# Altium integrated library AmpOp.IntLib: 6 symbols
Pins are listed as number, name and electrical type; pins without a type are passive.

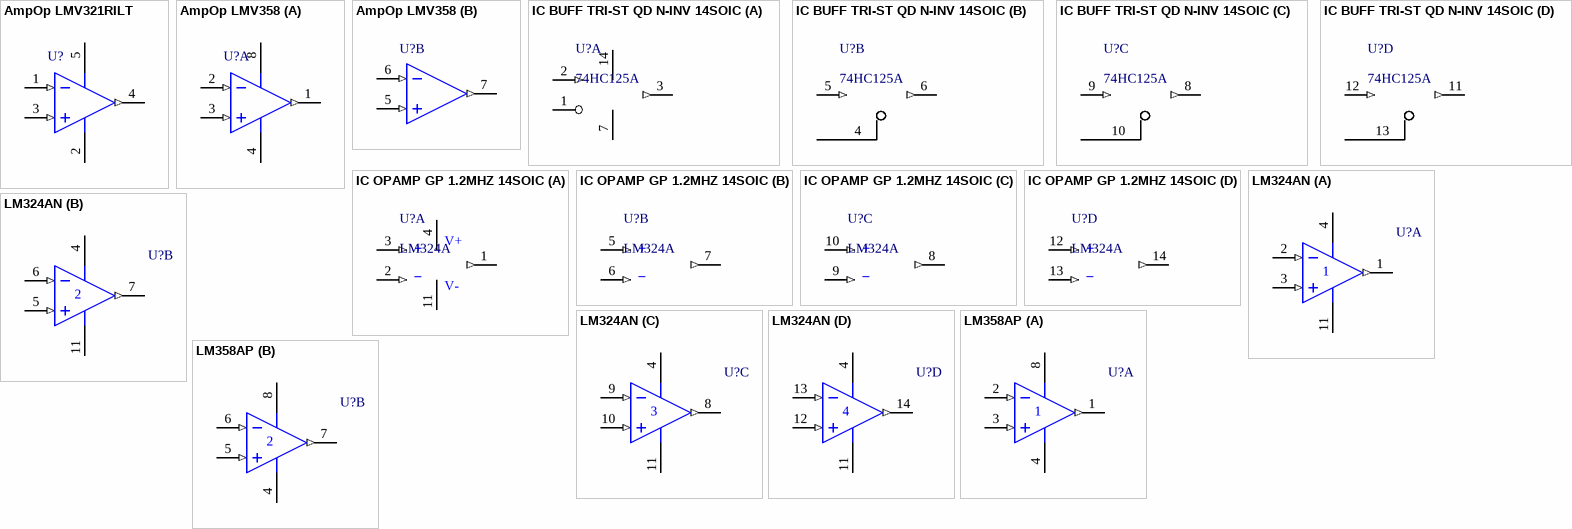
[diagram p0: symbols AmpOp LMV321RILT to LM358AP]

## AmpOp LMV321RILT
designator U?  (value not drawn)
IC OPAMP GP 1.3MHZ RRO SOT23-5; Manufacturer: STMicroelectronics; Manufacturer Part Number: LMV321RILT; Amplifier Type: General Purpose; Number of Circuits: 1; Output Type: Rail-to-Rail; Slew Rate: 0.45 V/µs; Current - Input Bias: 16nA; Voltage - Input Offset: 100µV; Current - Supply: 162µA; Current - Output / Channel: 48mA; Voltage - Supply, Single/Dual (±): 2.7 V ~ 6 V; Supplier 1: Digi-Key; RoHS: RoHS Compliant; Category: Integrated Circuits (ICs); Stock 1: 9362; Pricing 1: 1=0.42, 10=0.363, 100=0.2711, 500=0.213, 1000=0.16459 (USD); Packaging: Cut Tape (CT); Part Status: Active; Gain Bandwidth Product: 1.3MHz; -3db Bandwidth: -; Operating Temperature: -40°C ~ 125°C; Mounting Type: Surface Mount; Package / Case: SC-74A, SOT-753; Supplier Device Package: SOT-23-5; ComponentLink1URL: http://www.st.com/content/ccc/resource/technical/document/datasheet/b9/d8/3b/8f/a1/8f/46/01/CD00079372.pdf/files/CD00079372.pdf/jcr:content/translations/en.CD00079372.pdf; ComponentLink1Description: http://www.st.com/content/ccc/resource/technical/document/datasheet/b9/d8/3b/8f/a1/8f/46/01/CD00079372.pdf/files/CD00079372.pdf/jcr:content/translations/en.CD00079372.pdf; Supplier Part Number 1: 497-4942-1-ND
footprint SOT23-5 (Regulador 3.3v)
pins: 1 IN- (in), 2 GND (power), 3 IN+ (in), 4 OUT (out), 5 VCC (power)

## AmpOp LMV358
designator U?, comment OPAMP lmv358  (value not drawn)
IC OPAMP GP 1MHZ RRO 8VSSOP; Manufacturer: Texas Instruments; Manufacturer Part Number: LMV358IDGKR; Amplifier Type: General Purpose; Number of Circuits: 2; Output Type: Rail-to-Rail; Slew Rate: 1 V/µs; Current - Input Bias: 15nA; Voltage - Input Offset: 1.7mV; Current - Supply: 210µA; Current - Output / Channel: 160mA; Voltage - Supply, Single/Dual (±): 2.7 V ~ 5.5 V, ±1.35 V ~ 2.75 V; Supplier 1: Digi-Key; RoHS: RoHS Compliant; Category: Integrated Circuits (ICs); Stock 1: 31598; Pricing 1: 1=0.77, 10=0.68, 100=0.52, 500=0.412, 1000=0.33 (USD); Packaging: Digi-Reel®; Part Status: Active; Gain Bandwidth Product: 1MHz; -3db Bandwidth: -; Operating Temperature: -40°C ~ 125°C; Mounting Type: Surface Mount; Package / Case: 8-TSSOP, 8-MSOP (0.118", 3.00mm Width); Supplier Device Package: 8-VSSOP; ComponentLink1URL: http://www.ti.com/lit/ds/symlink/lmv324.pdf; ComponentLink1Description: http://www.ti.com/lit/ds/symlink/lmv324.pdf; Supplier Part Number 1: 296-13455-6-ND
footprint VSSOP (TSOP, 8-Leads, Body 3,00x3,00mm, Pitch 0,65mm, IPC Medium Density)
part A pins: 1 OUT1 (out), 2 IN1- (in), 3 IN1+ (in), 4 GND (power), 8 VCC (power)
part B pins: 5 IN2+ (in), 6 IN2- (in), 7 2 (out)

## IC BUFF TRI-ST QD N-INV 14SOIC
designator U?, comment 74HC125A
IC BUFF TRI-ST QD N-INV 14SOIC; Manufacturer: ON Semiconductor; Manufacturer Part Number: MC74HC125ADR2G; Logic Type: Buffer, Non-Inverting; Number of Elements: 4; Number of Bits per Element: 1; Output Type: Push-Pull; Current - Output High, Low: 7.8mA, 7.8mA; Voltage - Supply: 2 V ~ 6 V; Supplier 1: Digi-Key; RoHS: RoHS Compliant; Category: Integrated Circuits (ICs); Stock 1: 6470; Pricing 1: 1=0.38, 10=0.306, 100=0.2089, 500=0.15636, 1000=0.11711 (USD); Packaging: Cut Tape (CT); Part Status: Active; Input Type: -; Operating Temperature: -55°C ~ 125°C (TA); Mounting Type: Surface Mount; Package / Case: 14-SOIC (0.154", 3.90mm Width); Supplier Device Package: 14-SOIC; ComponentLink1URL: http://www.onsemi.com/pub_link/Collateral/MC74HC125A-D.PDF; ComponentLink1Description: http://www.onsemi.com/pub_link/Collateral/MC74HC125A-D.PDF; Supplier Part Number 1: MC74HC125ADR2GOSCT-ND
footprint SOIC-14 N
part A pins: 1 ~{OE1}, 2 A1 (in), 3 Y1 (out), 7 GND (power), 14 VCC (power)
part B pins: 4 ~{OE2}, 5 A2 (in), 6 Y2 (out)
part C pins: 8 Y3 (out), 9 A3 (in), 10 ~{OE3}
part D pins: 11 Y4 (out), 12 A4 (in), 13 ~{OE4}
1 alternate drawing of the same symbol

## IC OPAMP GP 1.2MHZ 14SOIC
designator U?, comment LM324A
IC OPAMP GP 1.2MHZ 14SOIC; Manufacturer: Texas Instruments; Manufacturer Part Number: LM324ADR; Amplifier Type: General Purpose; Number of Circuits: 4; Slew Rate: 0.5 V/µs; Current - Input Bias: 20nA; Voltage - Input Offset: 3mV; Current - Supply: 1.4mA; Current - Output / Channel: 60mA; Voltage - Supply, Single/Dual (±): 3 V ~ 32 V, ±1.5 V ~ 16 V; Supplier 1: Digi-Key; RoHS: RoHS Compliant; Category: Integrated Circuits (ICs); Stock 1: 42230; Pricing 1: 1=0.36, 10=0.295, 100=0.2013, 500=0.15068, 1000=0.11285 (USD); Packaging: Cut Tape (CT); Part Status: Active; Output Type: -; Gain Bandwidth Product: 1.2MHz; -3db Bandwidth: -; Operating Temperature: 0°C ~ 70°C; Mounting Type: Surface Mount; Package / Case: 14-SOIC (0.154", 3.90mm Width); Supplier Device Package: 14-SOIC; ComponentLink1URL: http://www.ti.com/lit/ds/symlink/lm224.pdf; ComponentLink1Description: http://www.ti.com/lit/ds/symlink/lm224.pdf; Supplier Part Number 1: 296-9540-1-ND
footprint SOIC-14 N
part A pins: 1 1OUT (out), 2 1IN- (in), 3 1IN+ (in), 4 VCC (power), 11 GND (power)
part B pins: 5 2IN+ (in), 6 2IN- (in), 7 2OUT (out)
part C pins: 8 3OUT (out), 9 3IN- (in), 10 3IN+ (in)
part D pins: 12 4IN+ (in), 13 4IN- (in), 14 4OUT (out)
1 alternate drawing of the same symbol
part A text: V+; +; _; V-
part B text: +; _
part C text: +; _
part D text: +; _

## LM324AN
designator U?
Quadruple Operational Amplifier; Published: 15-Apr-2002; LatestRevisionDate: 04-Mar-2005; LatestRevisionNote: Stylized 3D Model Added.; DatasheetVersion: Jan-1989; PackageVersion: Oct-1995; PackageReference: N014; Publisher: Altium Limited; PackageDescription: DIP; 14 Leads; Row Spacing 7.62 mm; Pitch 2.54 mm; ComponentLink1Description: Manufacturer Link; ComponentLink1URL: http://www.ti.com/; ComponentLink2Description: Datasheet; ComponentLink2URL: http://www-s.ti.com/sc/ds/lm324.pdf
footprint N014 (DIP; 14 Leads; Row Spacing 7.62 mm; Pitch 2.54 mm)
pins on every part: 4 V+ (power), 11 V- (power)
part A pins: 1 OUT (out), 2 IN- (in), 3 IN+ (in)
part B pins: 5 IN+ (in), 6 IN- (in), 7 OUT (out)
part C pins: 8 OUT (out), 9 IN- (in), 10 IN+ (in)
part D pins: 12 IN+ (in), 13 IN- (in), 14 OUT (out)

## LM358AP
designator U?
Dual Operational Amplifier; Published: 15-Apr-2002; LatestRevisionDate: 04-Mar-2005; LatestRevisionNote: Stylized 3D Model Added.; DatasheetVersion: Aug-1988; PackageVersion: Jun-1999; PackageReference: P008; Publisher: Altium Limited; PackageDescription: DIP; 8 Leads; Row Spacing 7.62 mm; Pitch 2.54 mm; Code_JEDEC: MO-001-AN; ComponentLink1Description: Manufacturer Link; ComponentLink1URL: http://www.ti.com/; ComponentLink2Description: Datasheet; ComponentLink2URL: http://www-s.ti.com/sc/ds/lm358.pdf
footprint P008 (DIP; 8 Leads; Row Spacing 7.62 mm; Pitch 2.54 mm)
pins on every part: 4 V- (power), 8 V+ (power)
part A pins: 1 OUT (out), 2 IN- (in), 3 IN+ (in)
part B pins: 5 IN+ (in), 6 IN- (in), 7 OUT (out)